# Altium schematic symbol library VS-30BQ040.SchLib: 1 symbol
Pins are listed as number, name and electrical type; pins without a type are passive.

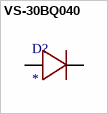
[diagram p0: symbol VS-30BQ040]

## VS-30BQ040
designator D?
High Performance Schottky Rectifier, 3.0 A
footprint DO-214AB (Molded Diode, 2-Leads, Body 6,86x6,11mm, IPC Medium Density)
pins: 1, 2